# Altium schematic symbol library [IC] Операционные усилители.SchLib: 3 symbols
Pins are listed as number, name and electrical type; pins without a type are passive.

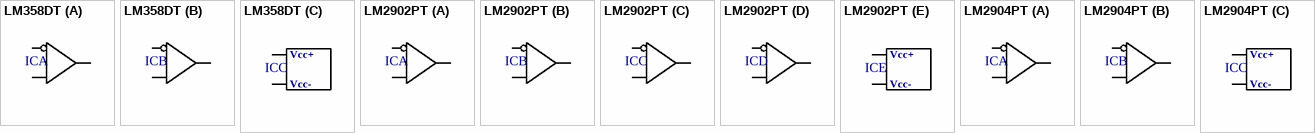
[diagram p0: symbols LM358DT to LM2904PT]

## LM358DT
designator IC
(2 элемента)
footprint SO-8
part A pins: 1, 2, 3
part B pins: 5, 6, 7
part C pins: 4, 8
part C text: Vcc+; Vcc-

## LM2902PT
designator IC
(4 элемента)
footprint TSSOP-14
part A pins: 1, 2, 3
part B pins: 5, 6, 7
part C pins: 8, 9, 10
part D pins: 12, 13, 14
part E pins: 4, 11
part E text: Vcc+; Vcc-

## LM2904PT
designator IC
(2 элемента)
footprint TSSOP-8
part A pins: 1, 2, 3
part B pins: 5, 6, 7
part C pins: 4, 8
part C text: Vcc+; Vcc-